# EAGLE library part LSM330DLC (library leds)
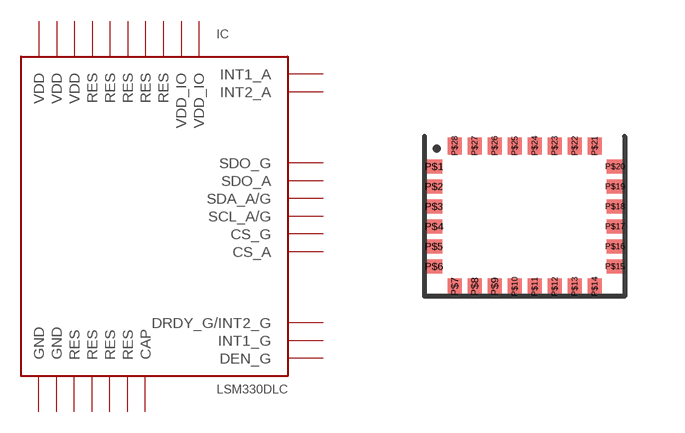
[diagram p0: symbol with the pads of LGA-28; footprint LGA-28]

Designator prefix IC

## LSM330DLC-LGA28  [LGA-28]
P$1  GND  pwr
P$2  RES  pwr
P$3  RES  pwr
P$4  RES  pwr
P$5  RES  pwr
P$6  GND  pwr
P$7  VDD  pwr
P$8  VDD  pwr
P$9  VDD  pwr
P$10  RES  pwr
P$11  RES  pwr
P$12  RES  pwr
P$13  RES  pwr
P$14  RES  pwr
P$15  CAP  pas
P$16  DEN_G
P$17  DRDY_G/INT2_G
P$18  INT1_G
P$19  INT2_A
P$20  INT1_A
P$21  VDD_IO  pwr
P$22  CS_G
P$23  CS_A
P$24  SCL_A/G
P$25  VDD_IO
P$26  SDO_G
P$27  SDO_A
P$28  SDA_A/G

## Footprint LGA-28 (pad centres in mm)
smd 0.425 x 0.35: P$1 -2.263,1.25; P$2 -2.263,0.75; P$3 -2.263,0.25; P$4 -2.263,-0.25; P$5 -2.263,-0.75; P$6 -2.263,-1.25; P$15 2.263,-1.25; P$16 2.263,-0.75; P$17 2.263,-0.25; P$18 2.263,0.25; P$19 2.263,0.75; P$20 2.263,1.25
smd 0.35 x 0.425: P$7 -1.75,-1.762; P$8 -1.25,-1.762; P$9 -0.75,-1.762; P$10 -0.25,-1.762; P$11 0.25,-1.762; P$12 0.75,-1.762; P$13 1.25,-1.762; P$14 1.75,-1.762; P$21 1.75,1.762; P$22 1.25,1.762; P$23 0.75,1.762; P$24 0.25,1.762; P$25 -0.25,1.762; P$26 -0.75,1.762; P$27 -1.25,1.762; P$28 -1.75,1.762